# Altium schematic symbol library USF340-20P0K-0P01-5PPM.SchLib: 1 symbol
Pins are listed as number, name and electrical type; pins without a type are passive.

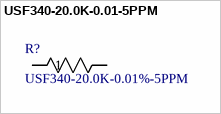
[diagram p0: symbol USF340-20.0K-0.01-5PPM]

## USF340-20.0K-0.01-5PPM
designator R?, comment USF340-20.0K-0.01%-5PPM
No Description Available; Manufacturer_Name: Caddock; Copyright: Copyright (C) 2026 Ultra Librarian. All rights reserved.; Manufacturer_Part_Number: USF340-20.0K-0.01%-5PPM
footprint RES_USF340_CDD
pins: 1, 2